# Altium schematic symbol library MAX3485ESA+.SchLib: 1 symbol
Pins are listed as number, name and electrical type; pins without a type are passive.

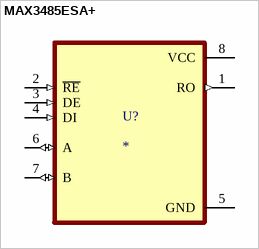
[diagram p0: symbol MAX3485ESA+]

## MAX3485ESA+
designator U?
3.3V Powered, 10Mbps and Slew-Rate Limited, True RS-485/RS-422 Transceivers; MF: Analog Devices; MP: MAX3485ESA+; SnapEDA_Link: https://www.snapeda.com/parts/MAX3485ESA+/Analog+Devices/view-part/?ref=snap; Package: SOIC-8 Maxim; Value: *; Check_prices: https://www.snapeda.com/parts/MAX3485ESA+/Analog+Devices/view-part/?ref=eda
footprint SOIC127P600X175-8N
pins: 1 RO (out), 2 ~{RE} (in), 3 DE (in), 4 DI (in), 5 GND (power), 6 A (io), 7 B (io), 8 VCC (power)